# Altium footprint library LAY_90818_C172.PcbLib: 60 footprints (part 1 of 5)
Each footprint in its own frame and in the unit in brackets; x right, y up, seen from the top. Pads: shape width x height; smd on the part's side, far side on the other; paste and mask are expansions set on the pad; w line width, h text height; cw(c..) or ccw(c..) is an arc to the next point about the centre after c.
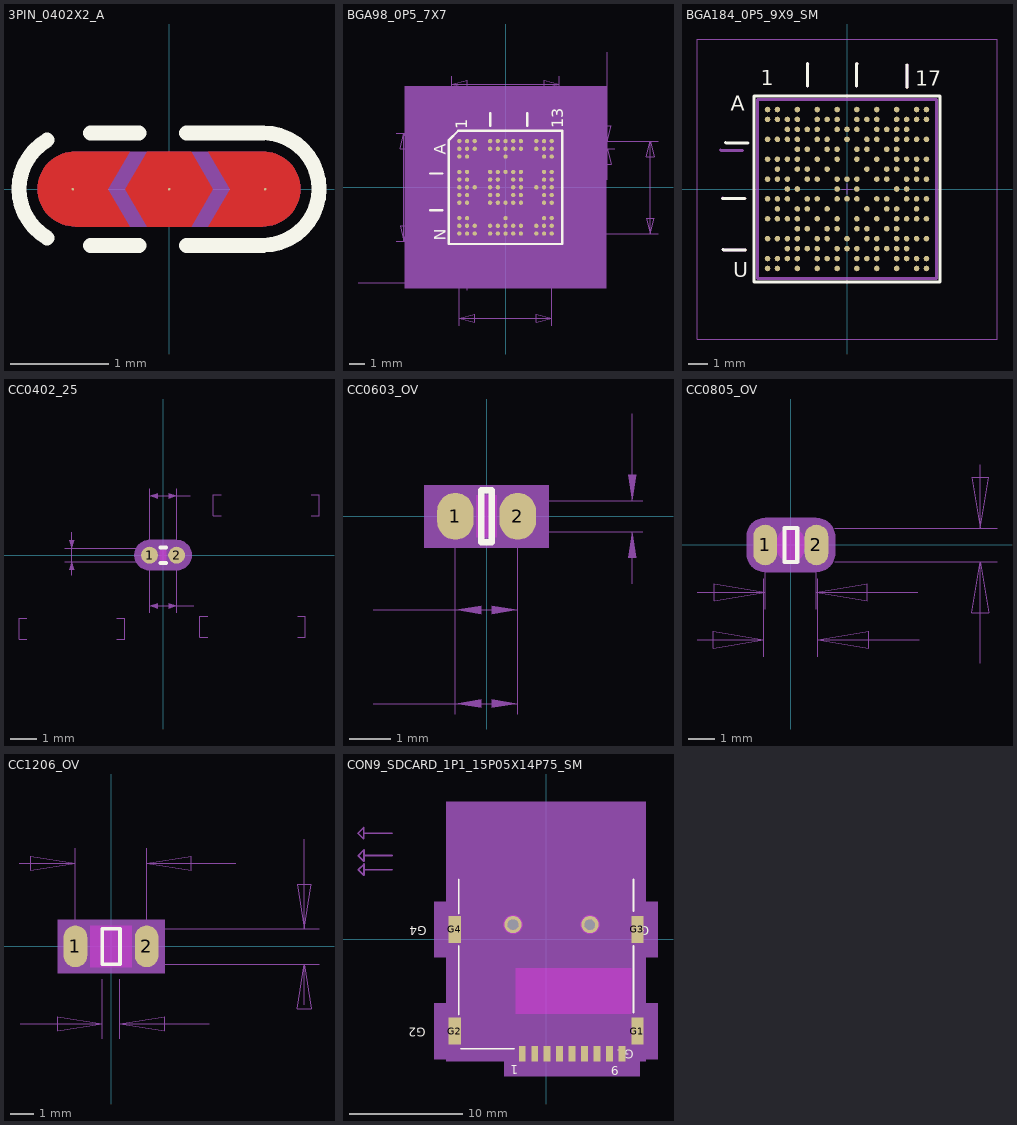
[diagram p0: the footprints below, top view; thin cyan lines are the x and y axes]

## 3PIN_0402X2_A [mil] "3PIN_0402X2_A"
pads (3):
  oct 1x1 smd: 1(38.5,0) 2(0,0) 3(-38.5,0)
Top Layer:
  region: 8.8,-15 17.5,0 8.8,15 -8.8,15 -17.5,0 -8.8,-15
  region: 8.8,-15 17.5,0 8.8,15 -8.8,15 -17.5,0 -8.8,-15
  region: -15.72,-15 -37.53,-15 -38.84,-14.94 -40.13,-14.77 -41.41,-14.49 -42.66,-14.09 -43.87,-13.59 -45.03,-12.99 -46.13,-12.29 -47.17,-11.49 -48.14,-10.6 -49.02,-9.64 -49.82,-8.6 -50.52,-7.5 -51.12,-6.34 -51.62,-5.13 -52.02,-3.88 -52.3,-2.6 -52.47,-1.3 -52.53,0 -52.47,1.31 -52.3,2.61 -52.02,3.89 -51.62,5.13 -51.12,6.34 -50.52,7.5 -49.81,8.61 -49.02,9.64 -48.13,10.61 -47.17,11.49 -46.13,12.29 -45.02,12.99 -43.86,13.6 -42.65,14.1 -41.41,14.49 -40.13,14.77 -38.83,14.94 -37.53,15 -15.72,15 -24.47,0
  region: -15.72,-15 -37.53,-15 -38.84,-14.94 -40.13,-14.77 -41.41,-14.49 -42.66,-14.09 -43.87,-13.59 -45.03,-12.99 -46.13,-12.29 -47.17,-11.49 -48.14,-10.6 -49.02,-9.64 -49.82,-8.6 -50.52,-7.5 -51.12,-6.34 -51.62,-5.13 -52.02,-3.88 -52.3,-2.6 -52.47,-1.3 -52.53,0 -52.47,1.31 -52.3,2.61 -52.02,3.89 -51.62,5.13 -51.12,6.34 -50.52,7.5 -49.81,8.61 -49.02,9.64 -48.13,10.61 -47.17,11.49 -46.13,12.29 -45.02,12.99 -43.86,13.6 -42.65,14.1 -41.41,14.49 -40.13,14.77 -38.83,14.94 -37.53,15 -15.72,15 -24.47,0
  region: 15.72,15 37.53,15 38.84,14.94 40.13,14.77 41.41,14.49 42.66,14.09 43.87,13.59 45.03,12.99 46.13,12.29 47.17,11.49 48.14,10.6 49.02,9.64 49.82,8.6 50.52,7.5 51.12,6.34 51.62,5.13 52.02,3.88 52.3,2.6 52.47,1.3 52.53,0 52.47,-1.31 52.3,-2.61 52.02,-3.89 51.62,-5.13 51.12,-6.34 50.52,-7.5 49.81,-8.61 49.02,-9.64 48.13,-10.61 47.17,-11.49 46.13,-12.29 45.02,-12.99 43.86,-13.6 42.65,-14.1 41.41,-14.49 40.13,-14.77 38.83,-14.94 37.53,-15 15.72,-15 24.47,0
  region: 15.72,15 37.53,15 38.84,14.94 40.13,14.77 41.41,14.49 42.66,14.09 43.87,13.59 45.03,12.99 46.13,12.29 47.17,11.49 48.14,10.6 49.02,9.64 49.82,8.6 50.52,7.5 51.12,6.34 51.62,5.13 52.02,3.88 52.3,2.6 52.47,1.3 52.53,0 52.47,-1.31 52.3,-2.61 52.02,-3.89 51.62,-5.13 51.12,-6.34 50.52,-7.5 49.81,-8.61 49.02,-9.64 48.13,-10.61 47.17,-11.49 46.13,-12.29 45.02,-12.99 43.86,-13.6 42.65,-14.1 41.41,-14.49 40.13,-14.77 38.83,-14.94 37.53,-15 15.72,-15 24.47,0
Top Overlay:
  lines w6: -48.72,-19.51 cw(c-37.5,-0.01) -60,0 cw(c-37.49,0) -48.72,19.51 ; -31.5,-22.5 -12,-22.5 ; -31.5,22.5 -12,22.5 ; 7,-22.5 37.5,-22.5 ccw(c37.5,0) 60,0 ccw(c37.5,0) 37.5,22.5 7,22.5
  text ".Designator" at 50,-35 h30
Top Paste:
  dashed: 39.37,-15 39.37,15 0,15 0,-15
Top Solder:
  dashed: 37.5,17 38.98,16.94 40.45,16.74 41.9,16.42 43.31,15.97 44.68,15.41 46,14.72 47.25,13.93 48.43,13.02 49.52,12.02 50.52,10.93 51.43,9.75 52.22,8.5 52.91,7.18 53.47,5.81 53.92,4.4 54.24,2.95 54.44,1.48 54.5,0 54.44,-1.48 54.24,-2.95 53.92,-4.4 53.47,-5.81 52.91,-7.18 52.22,-8.5 51.43,-9.75 50.52,-10.93 49.52,-12.02 48.43,-13.02 47.25,-13.93 46,-14.72 44.68,-15.41 43.31,-15.97 41.9,-16.42 40.45,-16.74 38.98,-16.94 37.5,-17 -2.5,-17 -37.5,-17 -38.98,-16.94 -40.45,-16.74 -41.9,-16.42 -43.31,-15.97 -44.68,-15.41 -46,-14.72 -47.25,-13.93 -48.43,-13.02 -49.52,-12.02 -50.52,-10.93 -51.43,-9.75 -52.22,-8.5 -52.91,-7.18 -53.47,-5.81 -53.92,-4.4 -54.24,-2.95 -54.44,-1.48 -54.5,0 -54.44,1.48 -54.24,2.95 -53.92,4.4 -53.47,5.81 -52.91,7.18 -52.22,8.5 -51.43,9.75 -50.52,10.93 -49.52,12.02 -48.43,13.02 -47.25,13.93 -46,14.72 -44.68,15.41 -43.31,15.97 -41.9,16.42 -40.45,16.74 -38.98,16.94 -37.5,17 -2.5,17
Top Courtyard:
  dashed: -2.5,15 37.5,15 38.81,14.94 40.1,14.77 41.38,14.49 42.63,14.1 43.84,13.59 45,12.99 46.1,12.29 47.14,11.49 48.11,10.61 48.99,9.64 49.79,8.6 50.49,7.5 51.09,6.34 51.6,5.13 51.99,3.88 52.27,2.6 52.44,1.31 52.5,0 52.44,-1.31 52.27,-2.6 51.99,-3.88 51.6,-5.13 51.09,-6.34 50.49,-7.5 49.79,-8.6 48.99,-9.64 48.11,-10.61 47.14,-11.49 46.1,-12.29 45,-12.99 43.84,-13.59 42.63,-14.1 41.38,-14.49 40.1,-14.77 38.81,-14.94 37.5,-15 -2.5,-15 -37.5,-15 -38.81,-14.94 -40.1,-14.77 -41.38,-14.49 -42.63,-14.1 -43.84,-13.59 -45,-12.99 -46.1,-12.29 -47.14,-11.49 -48.11,-10.61 -48.99,-9.64 -49.79,-8.6 -50.49,-7.5 -51.09,-6.34 -51.6,-5.13 -51.99,-3.88 -52.27,-2.6 -52.44,-1.31 -52.5,0 -52.44,1.31 -52.27,2.6 -51.99,3.88 -51.6,5.13 -51.09,6.34 -50.49,7.5 -49.79,8.6 -48.99,9.64 -48.11,10.61 -47.14,11.49 -46.1,12.29 -45,12.99 -43.84,13.59 -42.63,14.1 -41.38,14.49 -40.1,14.77 -38.81,14.94 -37.5,15
Top 3D Body:
  region: -2.5,15 37.5,15 38.81,14.94 40.1,14.77 41.38,14.49 42.63,14.1 43.84,13.59 45,12.99 46.1,12.29 47.14,11.49 48.11,10.61 48.99,9.64 49.79,8.6 50.49,7.5 51.09,6.34 51.6,5.13 51.99,3.88 52.27,2.6 52.44,1.31 52.5,0 52.44,-1.31 52.27,-2.6 51.99,-3.88 51.6,-5.13 51.09,-6.34 50.49,-7.5 49.79,-8.6 48.99,-9.64 48.11,-10.61 47.14,-11.49 46.1,-12.29 45,-12.99 43.84,-13.59 42.63,-14.1 41.38,-14.49 40.1,-14.77 38.81,-14.94 37.5,-15 -2.5,-15 -37.5,-15 -38.81,-14.94 -40.1,-14.77 -41.38,-14.49 -42.63,-14.1 -43.84,-13.59 -45,-12.99 -46.1,-12.29 -47.14,-11.49 -48.11,-10.61 -48.99,-9.64 -49.79,-8.6 -50.49,-7.5 -51.09,-6.34 -51.6,-5.13 -51.99,-3.88 -52.27,-2.6 -52.44,-1.31 -52.5,0 -52.44,1.31 -52.27,2.6 -51.99,3.88 -51.6,5.13 -51.09,6.34 -50.49,7.5 -49.79,8.6 -48.99,9.64 -48.11,10.61 -47.14,11.49 -46.1,12.29 -45,12.99 -43.84,13.59 -42.63,14.1 -41.38,14.49 -40.1,14.77 -38.81,14.94 -37.5,15
Top Component Center:
  lines w1: -10,0 10,0 ; 0,-10 0,10
Mechanical34:
  text "1" at 34.5,-3.3 h10
  text "3" at -37,-4 h10
  text "2" at -3,-4 h10
Mechanical38:
  text "PAD3 SH_037X030SXP" at -232.2,-324.4 h31
  text "ALL DIMS IN INCH" at -248,-384.5 h31
  text "PAD2 SH_037X030SXP" at -232.2,-279.4 h31
  text "PAD1 SH_035X035HEX" at -232.2,-229.4 h31
  text "3PIN_0402X2_A" at -155.2,91 h31
3D body: height 150, standoff 0, extent -52.5,-15 52.5,15

## BGA98_0P5_7X7 [mil] "BGA98_0P5_7X7"
pads (98):
  round 11 smd: A1(-118.11,118.11) A2(-98.42,118.11) A3(-78.74,118.11) A5(-39.37,118.11) A6(-19.68,118.11) A7(0,118.11) A8(19.68,118.11) A9(39.37,118.11) A11(78.74,118.11) A12(98.42,118.11) A13(118.11,118.11) B1(-118.11,98.42) B2(-98.42,98.42) B3(-78.74,98.42) B5(-39.37,98.42) B6(-19.68,98.42) B7(0,98.42) B8(19.68,98.42) B9(39.37,98.42) B11(78.74,98.42) B12(98.42,98.42) B13(118.11,98.42) C1(-118.11,78.74) C2(-98.42,78.74) C7(0,78.74) C12(98.42,78.74) C13(118.11,78.74) E1(-118.11,39.37) E2(-98.42,39.37) E5(-39.37,39.37) E6(-19.68,39.37) E7(0,39.37) E8(19.68,39.37) E9(39.37,39.37) E12(98.42,39.37) E13(118.11,39.37) F1(-118.11,19.68) F2(-98.42,19.68) F5(-39.37,19.68) F6(-19.68,19.68) F8(19.68,19.68) F9(39.37,19.68) F12(98.42,19.68) F13(118.11,19.68) G1(-118.11,0) G2(-98.42,0) G3(-78.74,0) G5(-39.37,0) G6(-19.68,0) G8(19.68,0) G9(39.37,0) G11(78.74,0) G12(98.42,0) G13(118.11,0) H1(-118.11,-19.68) H2(-98.42,-19.68) H5(-39.37,-19.68) H6(-19.68,-19.68) H8(19.68,-19.68) H9(39.37,-19.68) H12(98.42,-19.68) H13(118.11,-19.68) J1(-118.11,-39.37) J2(-98.42,-39.37) J5(-39.37,-39.37) J6(-19.68,-39.37) J7(0,-39.37) J8(19.68,-39.37) J9(39.37,-39.37) J12(98.42,-39.37) J13(118.11,-39.37) L1(-118.11,-78.74) L2(-98.42,-78.74) L7(0,-78.74) L12(98.42,-78.74) L13(118.11,-78.74) M1(-118.11,-98.42) M2(-98.42,-98.42) M3(-78.74,-98.42) M5(-39.37,-98.42) M6(-19.68,-98.42) M7(0,-98.42) M8(19.68,-98.42) M9(39.37,-98.42) M11(78.74,-98.42) M12(98.42,-98.42) M13(118.11,-98.42) N1(-118.11,-118.11) N2(-98.42,-118.11) N3(-78.74,-118.11) N5(-39.37,-118.11) N6(-19.68,-118.11) N7(0,-118.11) N8(19.68,-118.11) N9(39.37,-118.11) N11(78.74,-118.11) N12(98.42,-118.11) N13(118.11,-118.11)
Top Overlay:
  lines w6: -192.91,-59.05 -161.42,-59.05 ; -192.91,35.43 -161.42,35.43 ; -39.37,157.48 -39.37,188.98 ; 55.12,157.48 55.12,188.98 ; -144.79,-144.79 144.79,-144.79 144.79,144.79 -121.01,144.79 -144.79,121.01 -144.79,-144.79
  text ".Designator" at 61.9,-159.7 h30
  text "1" at -98.1,148.3 h30
  text "13" at 146.9,151.3 h30
  text "N" at -153.1,-136.7 h30
  text "A" at -153.1,83.3 h30
Top Courtyard:
  dashed: 137.79,137.79 137.79,-137.79 -137.79,-137.79 -137.79,137.79
Top 3D Body:
  region: -137.79,-137.79 137.79,-137.79 137.79,137.79 -137.79,137.79
Top Component Center:
  lines w1: -10,0 10,0 ; 0,-10 0,10
Mechanical 31:
  dashed: -257.8,-257.8 257.8,-257.8 257.8,257.8 -257.8,257.8
Mechanical34:
  text "L1" at -118.11,-86.74 h10
  text "E9" at 39.37,31.37 h10
  text "A11" at 78.74,106.11 h10
  text "E12" at 98.42,27.37 h10
  text "N8" at 19.68,-126.11 h10
  text "N2" at -98.42,-126.11 h10
  text "H9" at 39.37,-27.68 h10
  text "E6" at -19.68,31.37 h10
  text "C13" at 118.11,66.74 h10
  text "F8" at 19.68,11.69 h10
  text "B11" at 78.74,86.42 h10
  text "F5" at -39.37,11.69 h10
  text "L12" at 98.42,-90.74 h10
  text "B6" at -19.68,90.42 h10
  text "F12" at 98.42,7.68 h10
  text "A7" at 0,110.11 h10
  text "L13" at 118.11,-90.74 h10
  text "H5" at -39.37,-27.68 h10
  text "M5" at -39.37,-106.42 h10
  text "B2" at -98.42,90.42 h10
  text "F9" at 39.37,11.69 h10
  text "A8" at 19.68,110.11 h10
  text "E8" at 19.68,31.37 h10
  text "F2" at -98.42,11.69 h10
  text "F1" at -118.11,11.69 h10
  text "E2" at -98.42,31.37 h10
  text "M6" at -19.68,-106.42 h10
  text "N3" at -78.74,-126.11 h10
  text "N6" at -19.68,-126.11 h10
  text "E7" at 0,31.37 h10
  text "A12" at 98.42,106.11 h10
  text "G12" at 98.42,-12 h10
  text "G13" at 118.11,-12 h10
  text "B12" at 98.42,86.42 h10
  text "H12" at 98.42,-31.68 h10
  text "M9" at 39.37,-106.42 h10
  text "N9" at 39.37,-126.11 h10
  text "N11" at 78.74,-130.11 h10
  text "N13" at 118.11,-130.11 h10
  text "M13" at 118.11,-110.42 h10
  text "M3" at -78.74,-106.42 h10
  text "G1" at -118.11,-8 h10
  text "G2" at -98.42,-8 h10
  text "J12" at 98.42,-51.37 h10
  text "A1" at -118.11,110.11 h10
  text "A2" at -98.42,110.11 h10
  text "C12" at 98.42,66.74 h10
  text "L2" at -98.42,-86.74 h10
  text "J2" at -98.42,-47.37 h10
  text "G3" at -78.74,-8 h10
  text "J1" at -118.11,-47.37 h10
  text "F13" at 118.11,7.68 h10
  text "H8" at 19.68,-27.68 h10
  text "E5" at -39.37,31.37 h10
  text "B7" at 0,90.42 h10
  text "G5" at -39.37,-8 h10
  text "M2" at -98.42,-106.42 h10
  text "E1" at -118.11,31.37 h10
  text "G11" at 78.74,-12 h10
  text "J7" at 0,-47.37 h10
  text "G6" at -19.68,-8 h10
  text "B3" at -78.74,90.42 h10
  text "L7" at 0,-86.74 h10
  text "C7" at 0,70.74 h10
  text "J9" at 39.37,-47.37 h10
  text "G9" at 39.37,-8 h10
  text "H13" at 118.11,-31.68 h10
  text "C2" at -98.42,70.74 h10
  text "M7" at 0,-106.42 h10
  text "M8" at 19.68,-106.42 h10
  text "J8" at 19.68,-47.37 h10
  text "F6" at -19.68,11.69 h10
  text "B8" at 19.68,90.42 h10
  text "E13" at 118.11,27.37 h10
  text "G8" at 19.68,-8 h10
  text "H6" at -19.68,-27.68 h10
  text "J5" at -39.37,-47.37 h10
  text "A6" at -19.68,110.11 h10
  text "C1" at -118.11,70.74 h10
  text "M1" at -118.11,-106.42 h10
  text "A3" at -78.74,110.11 h10
  text "N7" at 0,-126.11 h10
  text "A5" at -39.37,110.11 h10
  text "A13" at 118.11,106.11 h10
  text "A9" at 39.37,110.11 h10
  text "J6" at -19.68,-47.37 h10
  text "B1" at -118.11,90.42 h10
  text "B13" at 118.11,86.42 h10
  text "B5" at -39.37,90.42 h10
  text "B9" at 39.37,90.42 h10
  text "H1" at -118.11,-27.68 h10
  text "H2" at -98.42,-27.68 h10
  text "J13" at 118.11,-51.37 h10
  text "N1" at -118.11,-126.11 h10
  text "N5" at -39.37,-126.11 h10
  text "M11" at 78.74,-110.42 h10
  text "M12" at 98.42,-110.42 h10
  text "N12" at 98.42,-130.11 h10
Mechanical35:
  lines w1: -377.19,-244.09 -118.11,-244.09 ; -279.53,-137.79 -157.48,-137.79 ; -279.53,137.79 -157.48,137.79 ; -137.79,157.48 -137.79,283.46 ; -118.11,-354.33 -118.11,-137.79 -118.11,-263.78 ; -98.42,-263.78 -98.42,-137.79 ; -19.68,-244.09 -98.42,-244.09 ; 118.11,-354.33 118.11,-137.79 ; 137.79,-118.11 389.76,-118.11 ; 137.79,98.42 279.53,98.42 ; 137.79,157.48 137.79,283.46 ; 259.84,19.68 259.84,98.42 ; 259.84,345.69 259.84,118.11 ; 279.53,118.11 137.79,118.11 389.76,118.11 ; -259.84,-137.79 -259.84,7.87 -259.84,137.79 ; -259.84,-137.79 -269.69,-98.42 -250,-98.42 -259.84,-137.79 ; -259.84,137.79 -250,98.42 -269.69,98.42 -259.84,137.79 ; -137.79,263.78 -11.81,263.78 137.79,263.78 ; -137.79,263.78 -98.42,273.62 -98.42,253.94 -137.79,263.78 ; -118.11,-334.65 -3.94,-334.65 118.11,-334.65 ; -118.11,-334.65 -78.74,-324.8 -78.74,-344.49 -118.11,-334.65 ; -118.11,-244.09 -157.48,-253.94 -157.48,-234.25 -118.11,-244.09 ; -118.11,-244.09 -98.42,-244.09 ; -98.42,-244.09 -59.05,-234.25 -59.05,-253.94 -98.42,-244.09 ; 118.11,-334.65 78.74,-344.49 78.74,-324.8 118.11,-334.65 ; 137.79,263.78 98.42,253.94 98.42,273.62 137.79,263.78 ; 259.84,98.42 269.69,59.05 250,59.05 259.84,98.42 ; 259.84,98.42 259.84,118.11 ; 259.84,118.11 250,157.48 269.69,157.48 259.84,118.11 ; 370.08,-118.11 370.08,3.94 370.08,118.11 ; 370.08,-118.11 360.24,-78.74 379.92,-78.74 370.08,-118.11 ; 370.08,118.11 379.92,78.74 360.24,78.74 370.08,118.11
  text "ALL DIMS. IN MM" at -181.1,-429.13 h31
  text "PAD=C011S" at -172.44,-478.84 h31
  text "BGA98_0P5_7X7" at -188.19,363.68 h31
  text "0.5" at -337.72,-217.13 h31
  text "6" at -22.94,-307.68 h31
  text "0.5" at 232.87,166.22 h31
  text "7" at -30.81,290.75 h31
  text "7" at -273.13,-3.63 h31
  text "6" at 343.11,-15.06 h31
Top Assembly:
  lines w6: -192.91,-59.05 -161.42,-59.05 ; -192.91,35.43 -161.42,35.43 ; -39.37,157.48 -39.37,188.98 ; 55.12,157.48 55.12,188.98 ; -137.79,-137.79 137.79,-137.79 137.79,137.79 -118.11,137.79 -137.79,118.11 -137.79,-137.79
  text "1" at -118.11,151.42 h25
  text "13" at 118.11,145.35 h25
  text "N" at -173.23,-147.79 h25
  text "A" at -177.16,96.3 h25
3D body: height 150, standoff 0, extent -137.79,-137.79 137.79,137.79

## BGA184_0P5_9X9_SM [mil] "BGA184_0P5_9X9_SM"
pads (184):
  round 11 smd: A1(-157.48,157.48) A2(-137.8,157.48) A4(-98.43,157.48) A6(-59.06,157.48) A8(-19.69,157.48) A10(19.69,157.48) A12(59.06,157.48) A14(98.43,157.48) A16(137.8,157.48) A17(157.48,157.48) B1(-157.48,137.8) B2(-137.8,137.8) B3(-118.11,137.8) B4(-98.43,137.8) B6(-59.06,137.8) B7(-39.37,137.8) B8(-19.69,137.8) B10(19.69,137.8) B11(39.37,137.8) B12(59.06,137.8) B14(98.43,137.8) B15(118.11,137.8) B16(137.8,137.8) B17(157.48,137.8) C3(-118.11,118.11) C4(-98.43,118.11) C5(-78.74,118.11) C6(-59.06,118.11) C8(-19.69,118.11) C9(0,118.11) C10(19.69,118.11) C12(59.06,118.11) C13(78.74,118.11) C14(98.43,118.11) C15(118.11,118.11) D1(-157.48,98.43) D2(-137.8,98.43) D3(-118.11,98.43) D4(-98.43,98.43) D6(-59.06,98.43) D7(-39.37,98.43) D9(0,98.43) D11(39.37,98.43) D12(59.06,98.43) D14(98.43,98.43) D15(118.11,98.43) D16(137.8,98.43) D17(157.48,98.43) E4(-98.43,78.74) E5(-78.74,78.74) E7(-39.37,78.74) E8(-19.69,78.74) E10(19.69,78.74) E11(39.37,78.74) E13(78.74,78.74) E14(98.43,78.74) F1(-157.48,59.06) F2(-137.8,59.06) F3(-118.11,59.06) F4(-98.43,59.06) F6(-59.06,59.06) F8(-19.69,59.06) F10(19.69,59.06) F12(59.06,59.06) F14(98.43,59.06) F15(118.11,59.06) F16(137.8,59.06) F17(157.48,59.06) G2(-137.8,39.37) G4(-98.43,39.37) G5(-78.74,39.37) G7(-39.37,39.37) G11(39.37,39.37) G13(78.74,39.37) G14(98.43,39.37) G16(137.8,39.37) H1(-157.48,19.69) H2(-137.8,19.69) H3(-118.11,19.69) H5(-78.74,19.69) H6(-59.06,19.69) H8(-19.69,19.69) H9(0,19.69) H10(19.69,19.69) H12(59.06,19.69) H13(78.74,19.69) H15(118.11,19.69) H16(137.8,19.69) H17(157.48,19.69) J3(-118.11,0) J4(-98.43,0) J8(-19.69,0) J10(19.69,0) J14(98.43,0) J15(118.11,0) K1(-157.48,-19.69) K2(-137.8,-19.69) K3(-118.11,-19.69) K5(-78.74,-19.69) K6(-59.06,-19.69) K8(-19.69,-19.69) K9(0,-19.69) K10(19.69,-19.69) K12(59.06,-19.69) K13(78.74,-19.69) K15(118.11,-19.69) K16(137.8,-19.69) K17(157.48,-19.69) L2(-137.8,-39.37) L4(-98.43,-39.37) L5(-78.74,-39.37) L7(-39.37,-39.37) L11(39.37,-39.37) L13(78.74,-39.37) L14(98.43,-39.37) L16(137.8,-39.37) M1(-157.48,-59.06) M2(-137.8,-59.06) M3(-118.11,-59.06) M4(-98.43,-59.06) M6(-59.06,-59.06) M8(-19.69,-59.06) M10(19.69,-59.06) M12(59.06,-59.06) M14(98.43,-59.06) M15(118.11,-59.06) M16(137.8,-59.06) M17(157.48,-59.06) N4(-98.43,-78.74) N5(-78.74,-78.74) N7(-39.37,-78.74) N8(-19.69,-78.74) N10(19.69,-78.74) N11(39.37,-78.74) N13(78.74,-78.74) N14(98.43,-78.74) P1(-157.48,-98.43) P2(-137.8,-98.43) P3(-118.11,-98.43) P4(-98.43,-98.43) P6(-59.06,-98.43) P7(-39.37,-98.43) P9(0,-98.43) P11(39.37,-98.43) P12(59.06,-98.43) P14(98.43,-98.43) P15(118.11,-98.43) P16(137.8,-98.43) P17(157.48,-98.43) R3(-118.11,-118.11) R4(-98.43,-118.11) R5(-78.74,-118.11) R6(-59.06,-118.11) R8(-19.69,-118.11) R9(0,-118.11) R10(19.69,-118.11) R12(59.06,-118.11) R13(78.74,-118.11) R14(98.43,-118.11) R15(118.11,-118.11) T1(-157.48,-137.8) T2(-137.8,-137.8) T3(-118.11,-137.8) T4(-98.43,-137.8) T6(-59.06,-137.8) T7(-39.37,-137.8) T8(-19.69,-137.8) T10(19.69,-137.8) T11(39.37,-137.8) T12(59.06,-137.8) T14(98.43,-137.8) T15(118.11,-137.8) T16(137.8,-137.8) T17(157.48,-137.8) U1(-157.48,-157.48) U2(-137.8,-157.48) U4(-98.43,-157.48) U6(-59.06,-157.48) U8(-19.69,-157.48) U10(19.69,-157.48) U12(59.06,-157.48) U14(98.43,-157.48) U16(137.8,-157.48) U17(157.48,-157.48)
Top Overlay:
  lines w6: -246.3,-18.5 -245.91,-18.9 -201.89,-18.9 ; -245.35,-120.08 -244.96,-120.47 -200.94,-120.47 ; -240.55,91.77 -240.16,91.38 -196.14,91.38 ; -78.27,203.7 -78.27,247.72 -77.87,248.11 ; 19.02,203.7 19.02,247.72 19.41,248.11 ; 118.62,200.94 118.62,244.96 119.02,245.35 ; -184.17,-184.17 -184.17,184.17 184.17,184.17 184.17,-184.17 -184.17,-184.17
  text ".Designator" at -265,20 h30
  text "A" at -230,155 h30
  text "U" at -225,-175 h30
  text "1" at -171.26,205.37 h30
  text "17" at 135,205 h30
Top Courtyard:
  lines w1: -177.17,-177.17 177.17,-177.17 177.17,177.17 -177.17,177.17 -177.17,-177.17
Top 3D Body:
  lines w1: -177.17,-177.17 177.17,-177.17 177.17,177.17 -177.17,177.17 -177.17,-177.17
Top Component Center:
  lines w1: -10,0 10,0 ; 0,-10 0,10
Mechanical 31:
  lines w1: -297.17,-297.17 297.17,-297.17 297.17,297.17 -297.17,297.17 -297.17,-297.17
Mechanical34:
  text "A10" at 7.69,157.48 h10
  text "B10" at 7.69,137.8 h10
  text "C6" at -67.06,118.11 h10
  text "B4" at -106.43,137.8 h10
  text "R12" at 47.06,-118.11 h10
  text "A4" at -106.43,157.48 h10
  text "D3" at -126.11,98.43 h10
  text "C3" at -126.11,118.11 h10
  text "C10" at 7.69,118.11 h10
  text "B8" at -27.69,137.8 h10
  text "E11" at 27.37,78.74 h10
  text "B15" at 106.11,137.8 h10
  text "T6" at -67.06,-137.8 h10
  text "T7" at -47.37,-137.8 h10
  text "N8" at -27.69,-78.74 h10
  text "T17" at 145.48,-137.8 h10
  text "T8" at -27.69,-137.8 h10
  text "C8" at -27.69,118.11 h10
  text "R9" at -8,-118.11 h10
  text "N10" at 7.69,-78.74 h10
  text "R10" at 7.69,-118.11 h10
  text "T10" at 7.69,-137.8 h10
  text "T11" at 27.37,-137.8 h10
  text "T12" at 47.06,-137.8 h10
  text "U12" at 47.06,-157.48 h10
  text "A1" at -165.48,157.48 h10
  text "B1" at -165.48,137.8 h10
  text "M6" at -67.06,-59.06 h10
  text "H1" at -165.48,19.69 h10
  text "H6" at -67.06,19.69 h10
  text "H8" at -27.69,19.69 h10
  text "G7" at -47.37,39.37 h10
  text "C9" at -8,118.11 h10
  text "T2" at -145.8,-137.8 h10
  text "K13" at 66.74,-19.69 h10
  text "L4" at -106.43,-39.37 h10
  text "C5" at -86.74,118.11 h10
  text "F3" at -126.11,59.06 h10
  text "U1" at -165.48,-157.48 h10
  text "T1" at -165.48,-137.8 h10
  text "K17" at 145.48,-19.69 h10
  text "C15" at 106.11,118.11 h10
  text "M17" at 145.48,-59.06 h10
  text "A14" at 86.43,157.48 h10
  text "M16" at 125.8,-59.06 h10
  text "L16" at 125.8,-39.37 h10
  text "M15" at 106.11,-59.06 h10
  text "C14" at 86.43,118.11 h10
  text "R8" at -27.69,-118.11 h10
  text "B11" at 27.37,137.8 h10
  text "F4" at -106.43,59.06 h10
  text "A8" at -27.69,157.48 h10
  text "G14" at 86.43,39.37 h10
  text "P3" at -126.11,-98.43 h10
  text "R3" at -126.11,-118.11 h10
  text "G13" at 66.74,39.37 h10
  text "B7" at -47.37,137.8 h10
  text "G4" at -106.43,39.37 h10
  text "T14" at 86.43,-137.8 h10
  text "L14" at 86.43,-39.37 h10
  text "T15" at 106.11,-137.8 h10
  text "F6" at -67.06,59.06 h10
  text "F14" at 86.43,59.06 h10
  text "A17" at 145.48,157.48 h10
  text "B16" at 125.8,137.8 h10
  text "A16" at 125.8,157.48 h10
  text "M14" at 86.43,-59.06 h10
  text "M3" at -126.11,-59.06 h10
  text "M2" at -145.8,-59.06 h10
  text "M1" at -165.48,-59.06 h10
  text "M8" at -27.69,-59.06 h10
  text "U6" at -67.06,-157.48 h10
  text "U10" at 7.69,-157.48 h10
  text "U8" at -27.69,-157.48 h10
  text "U4" at -106.43,-157.48 h10
  text "R13" at 66.74,-118.11 h10
  text "R14" at 86.43,-118.11 h10
  text "P2" at -145.8,-98.43 h10
  text "P1" at -165.48,-98.43 h10
  text "J15" at 106.11,0 h10
  text "F10" at 7.69,59.06 h10
  text "B17" at 145.48,137.8 h10
  text "F8" at -27.69,59.06 h10
  text "D14" at 86.43,98.43 h10
  text "K15" at 106.11,-19.69 h10
  text "A6" at -67.06,157.48 h10
  text "D17" at 145.48,98.43 h10
  text "C4" at -106.43,118.11 h10
  text "H15" at 106.11,19.69 h10
  text "L5" at -86.74,-39.37 h10
  text "H17" at 145.48,19.69 h10
  text "E7" at -47.37,78.74 h10
  text "H16" at 125.8,19.69 h10
  text "E8" at -27.69,78.74 h10
  text "G16" at 125.8,39.37 h10
  text "F16" at 125.8,59.06 h10
  text "B6" at -67.06,137.8 h10
  text "H3" at -126.11,19.69 h10
  text "F17" at 145.48,59.06 h10
  text "H2" at -145.8,19.69 h10
  text "F15" at 106.11,59.06 h10
  text "D7" at -47.37,98.43 h10
  text "K1" at -165.48,-19.69 h10
  text "E14" at 86.43,78.74 h10
  text "M4" at -106.43,-59.06 h10
  text "J3" at -126.11,0 h10
  text "E10" at 7.69,78.74 h10
  text "B12" at 47.06,137.8 h10
  text "U16" at 125.8,-157.48 h10
  text "G5" at -86.74,39.37 h10
  text "K3" at -126.11,-19.69 h10
  text "K2" at -145.8,-19.69 h10
  text "E4" at -106.43,78.74 h10
  text "U2" at -145.8,-157.48 h10
  text "D4" at -106.43,98.43 h10
  text "P11" at 27.37,-98.43 h10
  text "D1" at -165.48,98.43 h10
  text "D2" at -145.8,98.43 h10
  text "K5" at -86.74,-19.69 h10
  text "K12" at 47.06,-19.69 h10
  text "T3" at -126.11,-137.8 h10
  text "F2" at -145.8,59.06 h10
  text "M10" at 7.69,-59.06 h10
  text "A2" at -145.8,157.48 h10
  text "B2" at -145.8,137.8 h10
  text "M12" at 47.06,-59.06 h10
  text "N11" at 27.37,-78.74 h10
  text "B3" at -126.11,137.8 h10
  text "N7" at -47.37,-78.74 h10
  text "C13" at 66.74,118.11 h10
  text "A12" at 47.06,157.48 h10
  text "F1" at -165.48,59.06 h10
  text "C12" at 47.06,118.11 h10
  text "F12" at 47.06,59.06 h10
  text "D11" at 27.37,98.43 h10
  text "U17" at 145.48,-157.48 h10
  text "D16" at 125.8,98.43 h10
  text "R5" at -86.74,-118.11 h10
  text "L13" at 66.74,-39.37 h10
  text "U14" at 86.43,-157.48 h10
  text "D15" at 106.11,98.43 h10
  text "R4" at -106.43,-118.11 h10
  text "N4" at -106.43,-78.74 h10
  text "T4" at -106.43,-137.8 h10
  text "R6" at -67.06,-118.11 h10
  text "K16" at 125.8,-19.69 h10
  text "L2" at -145.8,-39.37 h10
  text "B14" at 86.43,137.8 h10
  text "P4" at -106.43,-98.43 h10
  text "N5" at -86.74,-78.74 h10
  text "P17" at 145.48,-98.43 h10
  text "K6" at -67.06,-19.69 h10
  text "L7" at -47.37,-39.37 h10
  text "K8" at -27.69,-19.69 h10
  text "R15" at 106.11,-118.11 h10
  text "L11" at 27.37,-39.37 h10
  text "K10" at 7.69,-19.69 h10
  text "P15" at 106.11,-98.43 h10
  text "N14" at 86.43,-78.74 h10
  text "H10" at 7.69,19.69 h10
  text "H12" at 47.06,19.69 h10
  text "G11" at 27.37,39.37 h10
  text "G2" at -145.8,39.37 h10
  text "P14" at 86.43,-98.43 h10
  text "P12" at 47.06,-98.43 h10
  text "N13" at 66.74,-78.74 h10
  text "T16" at 125.8,-137.8 h10
  text "P16" at 125.8,-98.43 h10
  text "E13" at 66.74,78.74 h10
  text "D12" at 47.06,98.43 h10
  text "J14" at 86.43,0 h10
  text "H13" at 66.74,19.69 h10
  text "D9" at -8,98.43 h10
  text "J8" at -27.69,0 h10
  text "K9" at -8,-19.69 h10
  text "J10" at 7.69,0 h10
  text "H9" at -8,19.69 h10
  text "P9" at -8,-98.43 h10
  text "E5" at -86.74,78.74 h10
  text "D6" at -67.06,98.43 h10
  text "H5" at -86.74,19.69 h10
  text "J4" at -106.43,0 h10
  text "P7" at -47.37,-98.43 h10
  text "P6" at -67.06,-98.43 h10
Mechanical35:
  text "BGA184_0P5_9X9_SM" at -241.73,300.69 h25
  text "ALL DIMS IN MM" at -176.46,-519.04 h25
  text "PADS C011S" at -128.93,-443.45 h25
Top Assembly:
  lines w6: -250.43,77.17 -249.65,76.38 -206.97,76.38 ; -246.18,-18.11 -245.39,-18.9 -202.72,-18.9 ; -245.24,-119.69 -244.45,-120.47 -201.77,-120.47 ; -78.27,204.53 -78.27,247.2 -77.48,247.99 ; 19.02,204.53 19.02,247.2 19.8,247.99 ; 118.62,201.77 118.62,244.45 119.41,245.24 ; -177.17,-177.17 177.17,-177.17 ; -177.17,-177.17 -177.17,177.17 ; -177.17,-177.17 177.17,-177.17 ; -177.17,-177.17 -177.17,177.17 ; -177.17,177.17 177.17,177.17 ; -177.17,177.17 177.17,177.17 ; 177.17,-177.17 177.17,177.17 ; 177.17,-177.17 177.17,177.17
  text "A" at -234.84,151.57 h25
  text "U" at -223.94,-170.37 h25
  text "1" at -168.27,206.69 h25
  text "17" at 152.8,219.29 h25

## CC0402_25 [mil] "CC0402_25"
pads (2):
  round 25 smd: 1(-20,0) 2(20,0)
Top Layer keep-out:
  region: 5,4 5,-4 4.98,-4.44 4.92,-4.87 4.83,-5.29 4.7,-5.71 4.53,-6.11 4.33,-6.5 4.1,-6.87 3.83,-7.21 3.54,-7.54 3.21,-7.83 2.87,-8.1 2.5,-8.33 2.11,-8.53 1.71,-8.7 1.29,-8.83 0.87,-8.92 0.44,-8.98 0,-9 -0.44,-8.98 -0.87,-8.92 -1.29,-8.83 -1.71,-8.7 -2.11,-8.53 -2.5,-8.33 -2.87,-8.1 -3.21,-7.83 -3.54,-7.54 -3.83,-7.21 -4.1,-6.87 -4.33,-6.5 -4.53,-6.11 -4.7,-5.71 -4.83,-5.29 -4.92,-4.87 -4.98,-4.44 -5,-4 -5,4 -4.98,4.44 -4.92,4.87 -4.83,5.29 -4.7,5.71 -4.53,6.11 -4.33,6.5 -4.1,6.87 -3.83,7.21 -3.54,7.54 -3.21,7.83 -2.87,8.1 -2.5,8.33 -2.11,8.53 -1.71,8.7 -1.29,8.83 -0.87,8.92 -0.44,8.98 0,9 0.44,8.98 0.87,8.92 1.29,8.83 1.71,8.7 2.11,8.53 2.5,8.33 2.87,8.1 3.21,7.83 3.54,7.54 3.83,7.21 4.1,6.87 4.33,6.5 4.53,6.11 4.7,5.71 4.83,5.29 4.92,4.87 4.98,4.44
Top Overlay:
  lines w6: -4,-11.5 4,-11.5 ; -4,11.5 4,11.5
  text ".Designator" at 35,-25 h30
Top Courtyard:
  dashed: 19.5,-12.5 20,-12.5 21.09,-12.45 22.17,-12.31 23.24,-12.07 24.28,-11.75 25.28,-11.33 26.25,-10.83 27.17,-10.24 28.03,-9.58 28.84,-8.84 29.58,-8.03 30.24,-7.17 30.83,-6.25 31.33,-5.28 31.75,-4.28 32.07,-3.24 32.31,-2.17 32.45,-1.09 32.5,0 32.45,1.09 32.31,2.17 32.07,3.24 31.75,4.28 31.33,5.28 30.83,6.25 30.24,7.17 29.58,8.03 28.84,8.84 28.03,9.58 27.17,10.24 26.25,10.83 25.28,11.33 24.28,11.75 23.24,12.07 22.17,12.31 21.09,12.45 20,12.5 -19.5,12.5 -20,12.5 -21.09,12.45 -22.17,12.31 -23.24,12.07 -24.28,11.75 -25.28,11.33 -26.25,10.83 -27.17,10.24 -28.03,9.58 -28.84,8.84 -29.58,8.03 -30.24,7.17 -30.83,6.25 -31.33,5.28 -31.75,4.28 -32.07,3.24 -32.31,2.17 -32.45,1.09 -32.5,0 -32.45,-1.09 -32.31,-2.17 -32.07,-3.24 -31.75,-4.28 -31.33,-5.28 -30.83,-6.25 -30.24,-7.17 -29.58,-8.03 -28.84,-8.84 -28.03,-9.58 -27.17,-10.24 -26.25,-10.83 -25.28,-11.33 -24.28,-11.75 -23.24,-12.07 -22.17,-12.31 -21.09,-12.45 -20,-12.5
Top 3D Body:
  region: 19.5,-12.5 20,-12.5 21.09,-12.45 22.17,-12.31 23.24,-12.07 24.28,-11.75 25.28,-11.33 26.25,-10.83 27.17,-10.24 28.03,-9.58 28.84,-8.84 29.58,-8.03 30.24,-7.17 30.83,-6.25 31.33,-5.28 31.75,-4.28 32.07,-3.24 32.31,-2.17 32.45,-1.09 32.5,0 32.45,1.09 32.31,2.17 32.07,3.24 31.75,4.28 31.33,5.28 30.83,6.25 30.24,7.17 29.58,8.03 28.84,8.84 28.03,9.58 27.17,10.24 26.25,10.83 25.28,11.33 24.28,11.75 23.24,12.07 22.17,12.31 21.09,12.45 20,12.5 -20,12.5 -21.09,12.45 -22.17,12.31 -23.24,12.07 -24.28,11.75 -25.28,11.33 -26.25,10.83 -27.17,10.24 -28.03,9.58 -28.84,8.84 -29.58,8.03 -30.24,7.17 -30.83,6.25 -31.33,5.28 -31.75,4.28 -32.07,3.24 -32.31,2.17 -32.45,1.09 -32.5,0 -32.45,-1.09 -32.31,-2.17 -32.07,-3.24 -31.75,-4.28 -31.33,-5.28 -30.83,-6.25 -30.24,-7.17 -29.58,-8.03 -28.84,-8.84 -28.03,-9.58 -27.17,-10.24 -26.25,-10.83 -25.28,-11.33 -24.28,-11.75 -23.24,-12.07 -22.17,-12.31 -21.09,-12.45 -20,-12.5
Top Component Center:
  lines w1: -10,0 10,0 ; 0,-10 0,10
Mechanical34:
  text "1" at -24,-4 h10
  text "2" at 16,-4 h10
Mechanical38:
  dashed: 8.2,-78.9 20,-75 8.2,-71.1
  dashed: -8.2,-71.1 -20,-75 -8.2,-78.9
  dashed: 8.2,83.6 20,87.5 8.2,91.4
  dashed: -8.2,91.4 -20,87.5 -8.2,83.6
  dashed: -138.9,21.8 -135,10 -131.1,21.8
  dashed: -131.1,-21.8 -135,-10 -138.9,-21.8
  lines w1: -201.5,-124 -213,-124 -213,-93 -201.5,-93 ; -145.4,-10 -20.4,-10 ; -145.4,10 -20.4,10 ; -135,-30 -135,-10 -135,10 -135,33.6 ; -68.5,-124 -57,-124 -57,-93 -68.5,-93 ; -20,-85.4 -20,-0.4 ; -20,10.4 -20,97.9 ; 20,-85.4 20,-0.4 ; 20,10.4 20,97.9 ; 40,87.5 20,87.5 ; 45,-75 20,-75 ; 66,-121.5 54.5,-121.5 54.5,-90.5 66,-90.5 ; 86,58.5 74.5,58.5 74.5,89.5 86,89.5 ; 199,-121.5 210.5,-121.5 210.5,-90.5 199,-90.5 ; 219,58.5 230.5,58.5 230.5,89.5 219,89.5 ; 20,-75 -20,-75 20,-75 ; 20,87.5 -20,87.5 20,87.5
  text "CC0402_25" at -90,189.7 h25
  text "Pad 1,2 C025S" at -130,-210.4 h25
  text "40.00" at 61.5,-59.5 h25
  text "1.02" at 77.5,-121.5 h25
  text "40.00" at 81.5,120.5 h25
  text "1.02" at 97.5,58.5 h25
  text "20.00" at -206,-62 h25
  text "0.51" at -190,-124 h25
Top Assembly:
  lines w6: -20,-10 20,-10 20,10 -20,10 -20,-10
Mechanical40:
  dashed: -22.1,22.5 20,22.5 21.96,22.41 23.91,22.16 25.82,21.73 27.7,21.14 29.51,20.39 31.25,19.49 32.91,18.43 34.46,17.24 35.91,15.91 37.24,14.46 38.43,12.91 39.49,11.25 40.39,9.51 41.14,7.7 41.73,5.82 42.16,3.91 42.41,1.96 42.5,0 42.41,-1.96 42.16,-3.91 41.73,-5.82 41.14,-7.7 40.39,-9.51 39.49,-11.25 38.43,-12.91 37.24,-14.46 35.91,-15.91 34.46,-17.24 32.91,-18.43 31.25,-19.49 29.51,-20.39 27.7,-21.14 25.82,-21.73 23.91,-22.16 21.96,-22.41 20,-22.5 -20,-22.5 -21.96,-22.41 -23.9,-22.16 -25.81,-21.73 -27.68,-21.15 -29.49,-20.4 -31.23,-19.49 -32.88,-18.44 -34.44,-17.25 -35.88,-15.92 -37.2,-14.48 -38.4,-12.92 -39.45,-11.27 -40.35,-9.53 -41.1,-7.72 -41.69,-5.85 -42.12,-3.94 -42.37,-2 -42.46,-0.04 -42.37,1.92 -42.12,3.86 -41.69,5.77 -41.1,7.64 -40.35,9.45 -39.45,11.19 -38.4,12.84 -37.2,14.39 -35.88,15.84 -34.44,17.16 -32.88,18.36 -31.23,19.41 -29.49,20.31 -27.68,21.06 -25.81,21.65 -23.9,22.08 -22.3,22.3
3D body: height 150, standoff 0, extent -32.5,-12.5 32.5,12.5

## CC0603_OV [mil] "CC0603_OV"
pads (2):
  oval 35x45 smd: 1(-30,0) 2(30,0)
Top Layer keep-out:
  region: -10,20 10,20 10,-20 -10,-20
Top Overlay:
  lines w6: -5,-25 -5,25 5,25 5,-25 -5,-25
  text ".Designator" at 50,-38 h25
Top Courtyard:
  dashed: -30,22.5 30,22.5 31.53,22.43 33.04,22.23 34.53,21.9 35.99,21.44 37.4,20.86 38.75,20.16 40.04,19.34 41.25,18.41 42.37,17.37 43.41,16.25 44.34,15.04 45.16,13.75 45.86,12.4 46.44,10.99 46.9,9.53 47.23,8.04 47.43,6.53 47.5,5 47.5,-5 47.43,-6.53 47.23,-8.04 46.9,-9.53 46.44,-10.99 45.86,-12.4 45.16,-13.75 44.34,-15.04 43.41,-16.25 42.37,-17.37 41.25,-18.41 40.04,-19.34 38.75,-20.16 37.4,-20.86 35.99,-21.44 34.53,-21.9 33.04,-22.23 31.53,-22.43 30,-22.5 -30,-22.5 -31.53,-22.43 -33.04,-22.23 -34.53,-21.9 -35.99,-21.44 -37.4,-20.86 -38.75,-20.16 -40.04,-19.34 -41.25,-18.41 -42.37,-17.37 -43.41,-16.25 -44.34,-15.04 -45.16,-13.75 -45.86,-12.4 -46.44,-10.99 -46.9,-9.53 -47.23,-8.04 -47.43,-6.53 -47.5,-5 -47.5,5 -47.43,6.53 -47.23,8.04 -46.9,9.53 -46.44,10.99 -45.86,12.4 -45.16,13.75 -44.34,15.04 -43.41,16.25 -42.37,17.37 -41.25,18.41 -40.04,19.34 -38.75,20.16 -37.4,20.86 -35.99,21.44 -34.53,21.9 -33.04,22.23 -31.53,22.43
Top 3D Body:
  region: -30,22.5 30,22.5 31.53,22.43 33.04,22.23 34.53,21.9 35.99,21.44 37.4,20.86 38.75,20.16 40.04,19.34 41.25,18.41 42.37,17.37 43.41,16.25 44.34,15.04 45.16,13.75 45.86,12.4 46.44,10.99 46.9,9.53 47.23,8.04 47.43,6.53 47.5,5 47.5,-5 47.43,-6.53 47.23,-8.04 46.9,-9.53 46.44,-10.99 45.86,-12.4 45.16,-13.75 44.34,-15.04 43.41,-16.25 42.37,-17.37 41.25,-18.41 40.04,-19.34 38.75,-20.16 37.4,-20.86 35.99,-21.44 34.53,-21.9 33.04,-22.23 31.53,-22.43 30,-22.5 -30,-22.5 -31.53,-22.43 -33.04,-22.23 -34.53,-21.9 -35.99,-21.44 -37.4,-20.86 -38.75,-20.16 -40.04,-19.34 -41.25,-18.41 -42.37,-17.37 -43.41,-16.25 -44.34,-15.04 -45.16,-13.75 -45.86,-12.4 -46.44,-10.99 -46.9,-9.53 -47.23,-8.04 -47.43,-6.53 -47.5,-5 -47.5,5 -47.43,6.53 -47.23,8.04 -46.9,9.53 -46.44,10.99 -45.86,12.4 -45.16,13.75 -44.34,15.04 -43.41,16.25 -42.37,17.37 -41.25,18.41 -40.04,19.34 -38.75,20.16 -37.4,20.86 -35.99,21.44 -34.53,21.9 -33.04,22.23 -31.53,22.43
Top Component Center:
  lines w1: -10,0 10,0 ; 0,-10 0,10
Mechanical 31:
  dashed: -60,-30 60,-30 60,30 -60,30
Mechanical34:
  text "1" at -26,0 h10
  text "2" at 34,0 h10
Mechanical35:
  dashed: 136,40 140,15 144,40
  dashed: 144,-40 140,-15 136,-40
  dashed: 5,-94 30,-90 5,-86
  dashed: -5,-86 -30,-90 -5,-94
  dashed: 5,-184 30,-180 5,-176
  dashed: -5,-176 -30,-180 -5,-184
  lines w1: -108.8,-180 -30,-180 30,-180 ; -108.8,-90 -30,-90 30,-90 ; -30,-190 -30,-10 ; -30,-100 -30,-25 ; 30,-190 30,-10 ; 30,-100 30,-25 ; 40,-15 150,-15 ; 40,15 150,15 ; 140,-65 140,-15 ; 140,15 140,98.3
  text "CC0603_OV" at -120,370 h25
  text "PAD O035X045S" at -180,270 h25
  text "ALL DIMS IN MIL" at -190,-300 h25
  text "30.0" at 85,124.5 h25
  text "60.0" at -245,-105.5 h25
  text "60.0" at -245,-195.5 h25
Top Assembly:
  lines w6: -30,-15 30,-15 30,15 -30,15 -30,-15
3D body: height 150, standoff 0, extent -47.5,-22.5 47.5,22.5

## CC0805_OV [mil] "CC0805_OV"
pads (2):
  oval 35x60 smd: 1(-38,0) 2(38,0)
Top Layer keep-out:
  region: 20.47,-4.49 20.41,-6.27 20.2,-8.05 19.84,-9.79 19.32,-11.5 18.65,-13.16 17.85,-14.76 16.91,-16.27 15.83,-17.7 14.64,-19.03 13.34,-20.25 11.94,-21.36 10.44,-22.34 8.87,-23.18 7.22,-23.88 5.53,-24.44 3.79,-24.84 2.02,-25.1 0.24,-25.2 -1.55,-25.14 -3.32,-24.93 -5.07,-24.56 -6.78,-24.04 -8.44,-23.38 -10.03,-22.57 -11.55,-21.63 -12.98,-20.56 -14.31,-19.37 -15.53,-18.06 -16.63,-16.66 -17.61,-15.17 -18.45,-13.59 -19.16,-11.95 -19.71,-10.25 -20.12,-8.51 -20.37,-6.74 -20.47,-4.96 -20.47,-4.49 -20.47,4.49 -20.41,6.27 -20.2,8.05 -19.84,9.79 -19.32,11.5 -18.65,13.16 -17.85,14.76 -16.91,16.27 -15.83,17.7 -14.64,19.03 -13.34,20.25 -11.94,21.36 -10.44,22.34 -8.87,23.18 -7.22,23.88 -5.53,24.44 -3.79,24.84 -2.02,25.1 -0.24,25.2 1.55,25.14 3.32,24.93 5.07,24.56 6.78,24.04 8.44,23.38 10.03,22.57 11.55,21.63 12.98,20.56 14.31,19.37 15.53,18.06 16.63,16.66 17.61,15.17 18.45,13.59 19.16,11.95 19.71,10.25 20.12,8.51 20.37,6.74 20.47,4.96 20.47,4.49
Top Overlay:
  lines w6: -9.5,-25 9.5,-25 9.5,25 -9.5,25 -9.5,-25
  text ".Designator" at -100,60 h30
Top Courtyard:
  dashed: -38,-30 38,-30 39.53,-29.93 41.04,-29.73 42.53,-29.4 43.99,-28.94 45.4,-28.36 46.75,-27.66 48.04,-26.84 49.25,-25.91 50.37,-24.87 51.41,-23.75 52.34,-22.54 53.16,-21.25 53.86,-19.9 54.44,-18.49 54.9,-17.03 55.23,-15.54 55.43,-14.03 55.5,-12.5 55.5,12.5 55.43,14.03 55.23,15.54 54.9,17.03 54.44,18.49 53.86,19.9 53.16,21.25 52.34,22.54 51.41,23.75 50.37,24.87 49.25,25.91 48.04,26.84 46.75,27.66 45.4,28.36 43.99,28.94 42.53,29.4 41.04,29.73 39.53,29.93 38,30 -38,30 -39.53,29.93 -41.04,29.73 -42.53,29.4 -43.99,28.94 -45.4,28.36 -46.75,27.66 -48.04,26.84 -49.25,25.91 -50.37,24.87 -51.41,23.75 -52.34,22.54 -53.16,21.25 -53.86,19.9 -54.44,18.49 -54.9,17.03 -55.23,15.54 -55.43,14.03 -55.5,12.5 -55.5,-12.5 -55.43,-14.03 -55.23,-15.54 -54.9,-17.03 -54.44,-18.49 -53.86,-19.9 -53.16,-21.25 -52.34,-22.54 -51.41,-23.75 -50.37,-24.87 -49.25,-25.91 -48.04,-26.84 -46.75,-27.66 -45.4,-28.36 -43.99,-28.94 -42.53,-29.4 -41.04,-29.73 -39.53,-29.93
Top 3D Body:
  region: -38,-30 38,-30 39.53,-29.93 41.04,-29.73 42.53,-29.4 43.99,-28.94 45.4,-28.36 46.75,-27.66 48.04,-26.84 49.25,-25.91 50.37,-24.87 51.41,-23.75 52.34,-22.54 53.16,-21.25 53.86,-19.9 54.44,-18.49 54.9,-17.03 55.23,-15.54 55.43,-14.03 55.5,-12.5 55.5,12.5 55.43,14.03 55.23,15.54 54.9,17.03 54.44,18.49 53.86,19.9 53.16,21.25 52.34,22.54 51.41,23.75 50.37,24.87 49.25,25.91 48.04,26.84 46.75,27.66 45.4,28.36 43.99,28.94 42.53,29.4 41.04,29.73 39.53,29.93 38,30 -38,30 -39.53,29.93 -41.04,29.73 -42.53,29.4 -43.99,28.94 -45.4,28.36 -46.75,27.66 -48.04,26.84 -49.25,25.91 -50.37,24.87 -51.41,23.75 -52.34,22.54 -53.16,21.25 -53.86,19.9 -54.44,18.49 -54.9,17.03 -55.23,15.54 -55.43,14.03 -55.5,12.5 -55.5,-12.5 -55.43,-14.03 -55.23,-15.54 -54.9,-17.03 -54.44,-18.49 -53.86,-19.9 -53.16,-21.25 -52.34,-22.54 -51.41,-23.75 -50.37,-24.87 -49.25,-25.91 -48.04,-26.84 -46.75,-27.66 -45.4,-28.36 -43.99,-28.94 -42.53,-29.4 -41.04,-29.73 -39.53,-29.93
Top Component Center:
  lines w1: -10,0 10,0 ; 0,-10 0,10
Mechanical 31:
  dashed: -38,-40 -40.4,-39.9 -42.78,-39.58 -45.12,-39.06 -47.41,-38.34 -49.62,-37.42 -51.75,-36.32 -53.77,-35.03 -55.68,-33.57 -57.45,-31.95 -59.07,-30.18 -60.53,-28.27 -61.82,-26.25 -62.92,-24.12 -63.84,-21.91 -64.56,-19.62 -65.08,-17.28 -65.4,-14.9 -65.5,-12.5 -65.5,12.5 -65.4,14.9 -65.08,17.28 -64.56,19.62 -63.84,21.91 -62.92,24.12 -61.82,26.25 -60.53,28.27 -59.07,30.18 -57.45,31.95 -55.68,33.57 -53.77,35.03 -51.75,36.32 -49.62,37.42 -47.41,38.34 -45.12,39.06 -42.78,39.58 -40.4,39.9 -38,40 38,40 40.4,39.9 42.78,39.58 45.12,39.06 47.41,38.34 49.62,37.42 51.75,36.32 53.77,35.03 55.68,33.57 57.45,31.95 59.07,30.18 60.53,28.27 61.82,26.25 62.92,24.12 63.84,21.91 64.56,19.62 65.08,17.28 65.4,14.9 65.5,12.5 65.5,-12.5 65.4,-14.9 65.08,-17.28 64.56,-19.62 63.84,-21.91 62.92,-24.12 61.82,-26.25 60.53,-28.27 59.07,-30.18 57.45,-31.95 55.68,-33.57 53.77,-35.03 51.75,-36.32 49.62,-37.42 47.41,-38.34 45.12,-39.06 42.78,-39.58 40.4,-39.9 38,-40
Mechanical34:
  text "2" at 38,4 h10
  text "1" at -38,4 h10
Mechanical35:
  lines w1: -138.75,-140 -40,-140 ; -138.75,-70 -38,-70 ; -40,-165 -40,-50 ; -38,-95 -38,-25 ; 38,-95 38,-25 ; 40,-165 40,-50 ; 65,-25 305,-25 ; 65,25 305,25 ; 188,-70 38,-70 ; 190,-140 40,-140 ; 280,-175 280,-25 ; 280,118.75 280,25 ; -40,-140 -115,-152.5 -115,-127.5 -40,-140 ; -38,-70 -113,-82.5 -113,-57.5 -38,-70 ; 38,-70 113,-57.5 113,-82.5 38,-70 ; 40,-140 115,-127.5 115,-152.5 40,-140 ; 280,-25 292.5,-100 267.5,-100 280,-25 ; 280,25 267.5,100 292.5,100 280,25
  text "CC0805_OV" at -90,220 h31
  text "PAD 1 2 O035X060S" at -160,-280 h31
  text "ALL DIMS IN MILS" at -160,-330 h31
  text "76.0" at -275,-85.5 h31
  text "80.0" at -275,-155.5 h31
  text "50.0" at 295.5,145 h31
Top Assembly:
  lines w6: -40,-25 40,-25 40,25 -40,25 -40,-25
3D body: height 150, standoff 0, extent -55.5,-30 55.5,30

## CC1206_OV [mil] "CC1206_OV"
pads (2):
  oval 40x70 smd: 1(-60,0) 2(60,0)
Top Layer keep-out:
  region: -35,-35 35,-35 35,35 -35,35
Top Overlay:
  lines w5.98: -15,-30 -15,30 15,30 15,-30 -15,-30
Top Courtyard:
  dashed: -60,-35 60,-35 61.74,-34.92 63.47,-34.7 65.18,-34.32 66.84,-33.79 68.45,-33.13 70,-32.32 71.47,-31.38 72.86,-30.32 74.14,-29.14 75.32,-27.86 76.38,-26.47 77.32,-25 78.13,-23.45 78.79,-21.84 79.32,-20.18 79.7,-18.47 79.92,-16.74 80,-15 80,15 79.92,16.74 79.7,18.47 79.32,20.18 78.79,21.84 78.13,23.45 77.32,25 76.38,26.47 75.32,27.86 74.14,29.14 72.86,30.32 71.47,31.38 70,32.32 68.45,33.13 66.84,33.79 65.18,34.32 63.47,34.7 61.74,34.92 60,35 -60,35 -61.74,34.92 -63.47,34.7 -65.18,34.32 -66.84,33.79 -68.45,33.13 -70,32.32 -71.47,31.38 -72.86,30.32 -74.14,29.14 -75.32,27.86 -76.38,26.47 -77.32,25 -78.13,23.45 -78.79,21.84 -79.32,20.18 -79.7,18.47 -79.92,16.74 -80,15 -80,-15 -79.92,-16.74 -79.7,-18.47 -79.32,-20.18 -78.79,-21.84 -78.13,-23.45 -77.32,-25 -76.38,-26.47 -75.32,-27.86 -74.14,-29.14 -72.86,-30.32 -71.47,-31.38 -70,-32.32 -68.45,-33.13 -66.84,-33.79 -65.18,-34.32 -63.47,-34.7 -61.74,-34.92
Top 3D Body:
  region: -60,-35 60,-35 61.74,-34.92 63.47,-34.7 65.18,-34.32 66.84,-33.79 68.45,-33.13 70,-32.32 71.47,-31.38 72.86,-30.32 74.14,-29.14 75.32,-27.86 76.38,-26.47 77.32,-25 78.13,-23.45 78.79,-21.84 79.32,-20.18 79.7,-18.47 79.92,-16.74 80,-15 80,15 79.92,16.74 79.7,18.47 79.32,20.18 78.79,21.84 78.13,23.45 77.32,25 76.38,26.47 75.32,27.86 74.14,29.14 72.86,30.32 71.47,31.38 70,32.32 68.45,33.13 66.84,33.79 65.18,34.32 63.47,34.7 61.74,34.92 60,35 -60,35 -61.74,34.92 -63.47,34.7 -65.18,34.32 -66.84,33.79 -68.45,33.13 -70,32.32 -71.47,31.38 -72.86,30.32 -74.14,29.14 -75.32,27.86 -76.38,26.47 -77.32,25 -78.13,23.45 -78.79,21.84 -79.32,20.18 -79.7,18.47 -79.92,16.74 -80,15 -80,-15 -79.92,-16.74 -79.7,-18.47 -79.32,-20.18 -78.79,-21.84 -78.13,-23.45 -77.32,-25 -76.38,-26.47 -75.32,-27.86 -74.14,-29.14 -72.86,-30.32 -71.47,-31.38 -70,-32.32 -68.45,-33.13 -66.84,-33.79 -65.18,-34.32 -63.47,-34.7 -61.74,-34.92
Top Component Center:
  lines w1: -10,0 10,0 ; 0,-10 0,10
Mechanical 31:
  dashed: -90,-45 90,-45 90,45 -90,45
Mechanical34:
  text "2" at 64,-20 h10
  text "1" at -56,-20 h10
Mechanical35:
  lines w1: -155,140 -60,140 ; -152.99,-130 -15,-130 ; -60,25 -60,165 ; -15,-155 -15,-55 ; 15,-155 15,-55 ; 40,-30 350,-30 ; 40,30 350,30 ; 60,25 60,165 ; 165,-130 15,-130 ; 210,140 60,140 ; 325,-97.99 325,-30 ; 325,180 325,30 ; -60,140 -135,127.99 -135,152.01 -60,140 ; -15,-130 -90,-142.01 -90,-117.99 -15,-130 ; 15,-130 90,-117.99 90,-142.01 15,-130 ; 60,140 135,152.01 135,127.99 60,140 ; 325,-30 337.01,-105 312.99,-105 325,-30 ; 325,30 312.99,105 337.01,105 325,30
  text "CC1206_OV" at -205,240 h31
  text "PADS O040X070S" at -245,-250 h31
  text "120.0" at -412.01,120 h31
  text "60.0" at 345,-309.02 h31
  text "30.0" at -364.02,-150 h31
Top Assembly:
  lines w5.98: -60,-30 -60,30 60,30 60,-30 -60,-30
  text ".Designator" at 30,0 h25
3D body: height 150, standoff 0, extent -80,-35 80,35

## CON9_SDCARD_1P1_15P05X14P75_SM [mil] "CON9_SDCARD_1P1_15P05X14P75_SM"
pads (15):
  rect 24x55 smd: 1(-82.87,-399.65) 2(-39.57,-399.65) 3(3.74,-399.65) 4(47.05,-399.65) 5(90.35,-399.65) 6(133.66,-399.65) 7(176.97,-399.65) 8(220.28,-399.65) 9(263.58,-399.65)
  rect 43x94 smd: G1(317.91,-320.91) G2(-317.91,-320.91) G3(317.91,33.42) G4(-317.91,33.42)
  round 60 hole 37 unplated: ""(-115.16,50.15) ""(152.56,50.15)
Top Layer keep-out:
  region: 296.26,-260.68 296.26,-101.23 -105.31,-101.23 -105.31,-260.68
Bottom Layer:
  region: -96.09,50.15 -97.54,42.86 -101.68,36.67 -107.86,32.54 -115.16,31.09 -122.45,32.54 -124.53,33.92 -128.64,36.67 -132.77,42.86 -134.22,50.15 -132.77,57.45 -128.64,63.64 -124.53,66.38 -122.45,67.77 -115.16,69.22 -107.86,67.77 -101.68,63.64 -97.54,57.45
  region: 171.63,50.15 170.18,42.86 166.04,36.67 159.86,32.54 152.56,31.09 145.26,32.54 143.19,33.92 139.08,36.67 134.94,42.86 133.49,50.15 134.94,57.45 139.08,63.64 143.19,66.38 145.26,67.77 152.56,69.22 159.86,67.77 166.04,63.64 170.18,57.45
Top Overlay:
  lines w6: -304.24,-263.52 -304.24,-24.32 ; -304.24,89.05 -304.24,207.63 ; -296.42,-382.06 -111.2,-382.06 ; 304.24,-257.04 304.24,-23.85 ; 304.24,96.15 304.24,207.98
  text "1" at -97,-438.71 h30
  text "9" at 253,-443.71 h30
  text ".Designator" at 134,-448.71 h30
  text "G1" at 304.73,-385.4 h30
  text "G3" at 359.51,43.8 h30
  text "G2" at -418.45,-309.24 h30
  text "G4" at -416.14,43.8 h30
Top Courtyard:
  dashed: 275.58,-427.15 -94.87,-427.15 -94.87,-375.06 -297.24,-375.06 -297.24,-367.91 -339.35,-367.91 -339.35,-273.91 -297.24,-273.91 -297.24,-13.22 -339.41,-13.22 -339.41,80.42 -297.24,80.42 -297.24,427.15 297.24,427.15 297.24,80.42 339.41,80.42 339.41,-13.22 297.24,-13.22 297.24,-273.91 339.41,-273.91 339.41,-367.91 297.24,-367.91 297.24,-375.06 275.58,-375.06
Bottom Courtyard:
  dashed: -96.09,50.15 -97.54,42.86 -101.68,36.67 -107.86,32.54 -115.16,31.09 -122.45,32.54 -124.53,33.92 -128.64,36.67 -132.77,42.86 -134.22,50.15 -132.77,57.45 -128.64,63.64 -124.53,66.38 -122.45,67.77 -115.16,69.22 -107.86,67.77 -101.68,63.64 -97.54,57.45
  dashed: 171.63,50.15 170.18,42.86 166.04,36.67 159.86,32.54 152.56,31.09 145.26,32.54 143.19,33.92 139.08,36.67 134.94,42.86 133.49,50.15 134.94,57.45 139.08,63.64 143.19,66.38 145.26,67.77 152.56,69.22 159.86,67.77 166.04,63.64 170.18,57.45
Top 3D Body:
  region: 275.58,-427.15 -94.87,-427.15 -94.87,-375.06 -297.24,-375.06 -297.24,-367.91 -339.35,-367.91 -339.35,-273.91 -297.24,-273.91 -297.24,-13.22 -339.41,-13.22 -339.41,80.42 -297.24,80.42 -297.24,427.15 297.24,427.15 297.24,80.42 339.41,80.42 339.41,-13.22 297.24,-13.22 297.24,-273.91 339.41,-273.91 339.41,-367.91 297.24,-367.91 297.24,-375.06 275.58,-375.06
Top Component Center:
  lines w1: -10,-83.71 10,-83.71 ; 0,-93.71 0,-73.71
Multi-Layer keep-out:
  region: 186.35,50.15 185.2,41.41 181.82,33.26 176.45,26.26 169.45,20.89 161.3,17.52 152.56,16.37 143.81,17.52 135.66,20.89 128.67,26.26 123.3,33.26 119.92,41.41 118.77,50.15 119.92,58.9 123.3,67.05 128.67,74.05 135.66,79.42 143.81,82.79 152.56,83.94 161.3,82.79 169.45,79.42 176.45,74.05 181.82,67.05 185.2,58.9
  region: -81.37,50.15 -82.52,41.41 -85.9,33.26 -91.27,26.26 -98.26,20.89 -106.41,17.52 -115.16,16.37 -123.9,17.52 -132.05,20.89 -139.05,26.26 -144.42,33.26 -147.79,41.41 -148.95,50.15 -147.79,58.9 -144.42,67.05 -139.05,74.05 -132.05,79.42 -123.9,82.79 -115.16,83.94 -106.41,82.79 -98.26,79.42 -91.27,74.05 -85.9,67.05 -82.52,58.9
Mechanical34:
  text "4" at 35.43,-399.51 h10
  text "9" at 258.91,-399.8 h10
  text "8" at 207.31,-400.67 h10
  text "3" at -8.92,-400.09 h10
  text "7" at 163.83,-399.51 h10
  text "5" at 78.03,-400.38 h10
  text "2" at -52.68,-400.67 h10
  text "1" at -96.74,-400.09 h10
  text "G3" at 309.91,33.42 h10
  text "G1" at 309.91,-320.91 h10
  text "G4" at -325.91,33.42 h10
  text "G2" at -325.91,-320.91 h10
  text "6" at 121.22,-399.8 h10
Mechanical38:
  text "PADS 1-9 R024X055S" at -238.57,737.43 h31
  text "PADS G1-G4 R043X094S" at -278.46,791.12 h31
  text "MECH PADS C037-037N" at -246.33,853.37 h31
  text "CON9_SDCARD_1P1_15P05X14P75_SM" at -355.84,-807.44 h31
  text "ALL DIMS IN MM" at -186.65,909.02 h31
Top Assembly:
  lines w1: -196.81,206.65 -196.81,427.15 240.29,427.15 240.29,206.65 ; -196.81,261.8 240.29,261.8 ; -196.81,305.1 240.29,305.1
  lines w6: -635.44,348.77 -654.78,368.12 -634.75,388.14 -634.75,368.46 ; -634.75,348.77 -634.75,368.46 ; -634.2,221.65 -653.54,241 -633.51,261.02 -633.51,241.34 ; -633.51,221.65 -633.51,241.34 ; -536.32,368.46 -634.75,368.46 ; -535.39,290.75 -633.81,290.75 ; -535.09,241.34 -633.51,241.34 ; -633.81,290.75 -633.81,271.06 -634.5,271.06 -653.84,290.41 -633.81,310.43 -633.81,290.75 ; -297.24,-375.06 297.24,-375.06 297.24,207.63 -297.24,207.63 -297.24,-375.06
  text "CARD PUSH" at -918.83,250.48 h31
  text "CARD LOCK" at -918.83,309.61 h31
  text "CARD UN LOCK" at -997.77,379.18 h31
  text "1" at -93.61,-456.24 h25
  text "9" at 253.5,-458.41 h25
  text "G1" at 368.72,-314.64 h25
  text "G3" at 363.5,39.56 h25
  text "G2" at -414.46,-313.48 h25
  text "G4" at -412.15,39.56 h25
Mechanical40:
  dashed: 325.58,-425.06 325.58,-477.15 -144.87,-477.15 -144.87,-425.06 -347.24,-425.06 -347.24,-417.91 -389.35,-417.91 -389.35,-223.91 -347.24,-223.91 -347.24,-63.22 -389.41,-63.22 -389.41,130.42 -347.24,130.42 -347.24,477.15 347.24,477.15 347.24,130.42 389.41,130.42 389.41,-63.22 347.24,-63.22 347.24,-223.91 389.41,-223.91 389.41,-417.91 347.24,-417.91 347.24,-425.06
3D body: height 150, standoff 0, extent -339.41,-427.15 339.41,427.15